# Altium footprint library TE-2-292173-4.PcbLib: 1 footprints
Each footprint in its own frame and in the unit in brackets; x right, y up, seen from the top. Pads: shape width x height; smd on the part's side, far side on the other; paste and mask are expansions set on the pad; w line width, h text height; cw(c..) or ccw(c..) is an arc to the next point about the centre after c.
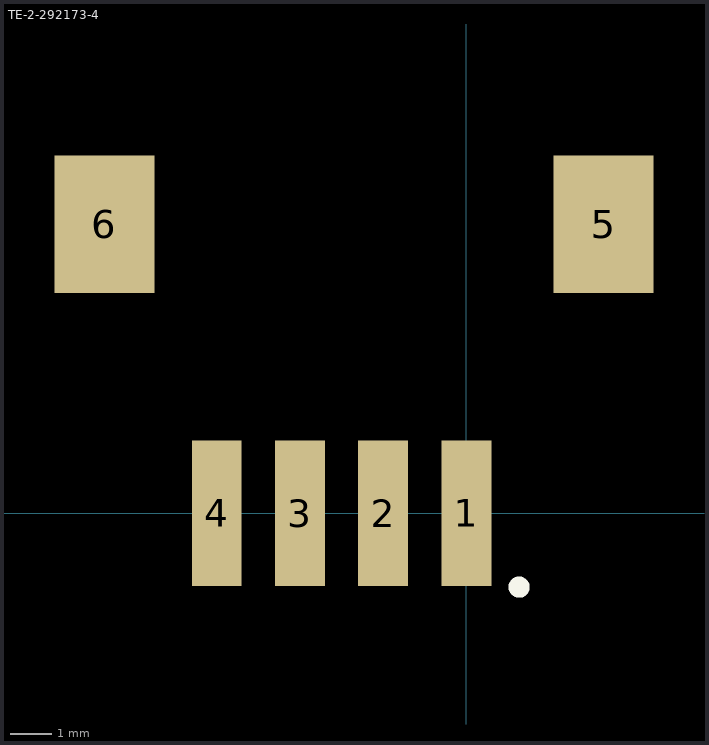
[diagram p0: the footprint, top view; thin cyan lines are the x and y axes]

## TE-2-292173-4 [mm]
pads (6):
  rect 1.2x3.5 smd: 1(0,0) 2(-2,0) 3(-4,0) 4(-6,0)
  rect 2.4x3.3 smd: 5(3.3,6.95) 6(-8.7,6.95)
Top Overlay:
  circle w0.254: c1.27,-1.778 r0.127
3D body: height 5.82, standoff -0.03, extent -9.68,-1.271 4.02,9.129